# EAGLE library part MAX21000 (library MAÑE)
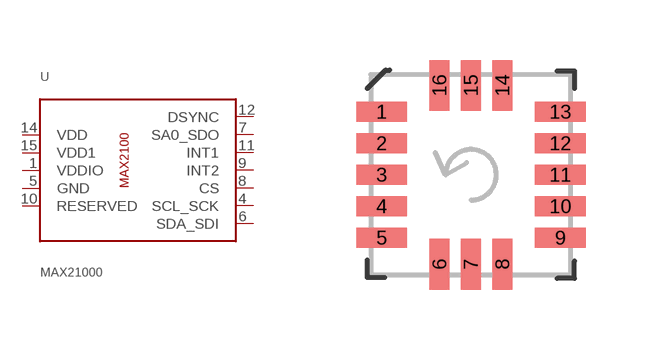
[diagram p13: symbol with the pads of LGA16; footprint LGA16]

Designator prefix -

## MAX21000  [LGA16]
1  VDDIO  in
4  SCL_SCK  in
5  GND  in
6  SDA_SDI  in
7  SA0_SDO  out
8  CS  in
9  INT2  out
10  RESERVED  in
11  INT1  out
12  DSYNC  in
14  VDD  in
15  VDD1  in

## Footprint LGA16 (pad centres in mm)
smd 1.27 x 0.508: 1 -2.235,1.575; 2 -2.235,0.787; 3 -2.235,0; 4 -2.235,-0.787; 5 -2.235,-1.575; 9 2.235,-1.575; 10 2.235,-0.787; 11 2.235,0; 12 2.235,0.787; 13 2.235,1.575
smd 0.508 x 1.27: 6 -0.787,-2.235; 7 0,-2.235; 8 0.787,-2.235; 14 0.787,2.235; 15 0,2.235; 16 -0.787,2.235